# Altium schematic symbol library Vlakec.SchLib: 3 symbols
Pins are listed as number, name and electrical type; pins without a type are passive.

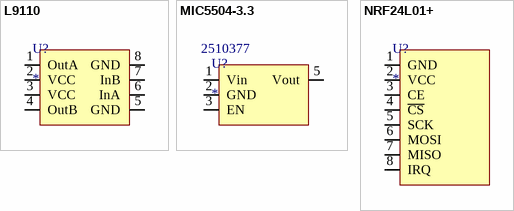
[diagram p0: symbols L9110 to NRF24L01+]

## L9110
designator U?
H-bridge 800mA 2.5-12V
footprint SOP-8 (SOIC, 8-Leads, Body 4.90x3.90mm, Pitch 1.27mm, IPC Medium Density)
pins: 1 OutA, 2 VCC, 3 VCC, 4 OutB, 5 GND, 6 InA, 7 InB, 8 GND

## MIC5504-3.3
designator U?  Supplier Part Number 1: 2510377
Supplier 1: Farnell
footprint SOT23-5 (SOT23, 5-Leads, Body 2.98x2.75mm, Pitch 0.95mm, IPC Medium Density)
pins: 1 Vin, 2 GND, 3 EN, 5 Vout

## NRF24L01+
designator U?
2.4GHz low power, long range module
footprint NRF24L01+smd_module
footprint NRF24L01+tht_module
pins: 1 GND, 2 VCC, 3 CE, 4 ~{CS}, 5 SCK, 6 MOSI, 7 MISO, 8 IRQ